# Altium footprint library BioSens.PcbLib: 26 footprints (part 2 of 2)
Each footprint in its own frame and in the unit in brackets; x right, y up, seen from the top. Pads: shape width x height; smd on the part's side, far side on the other; paste and mask are expansions set on the pad; w line width, h text height; cw(c..) or ccw(c..) is an arc to the next point about the centre after c.
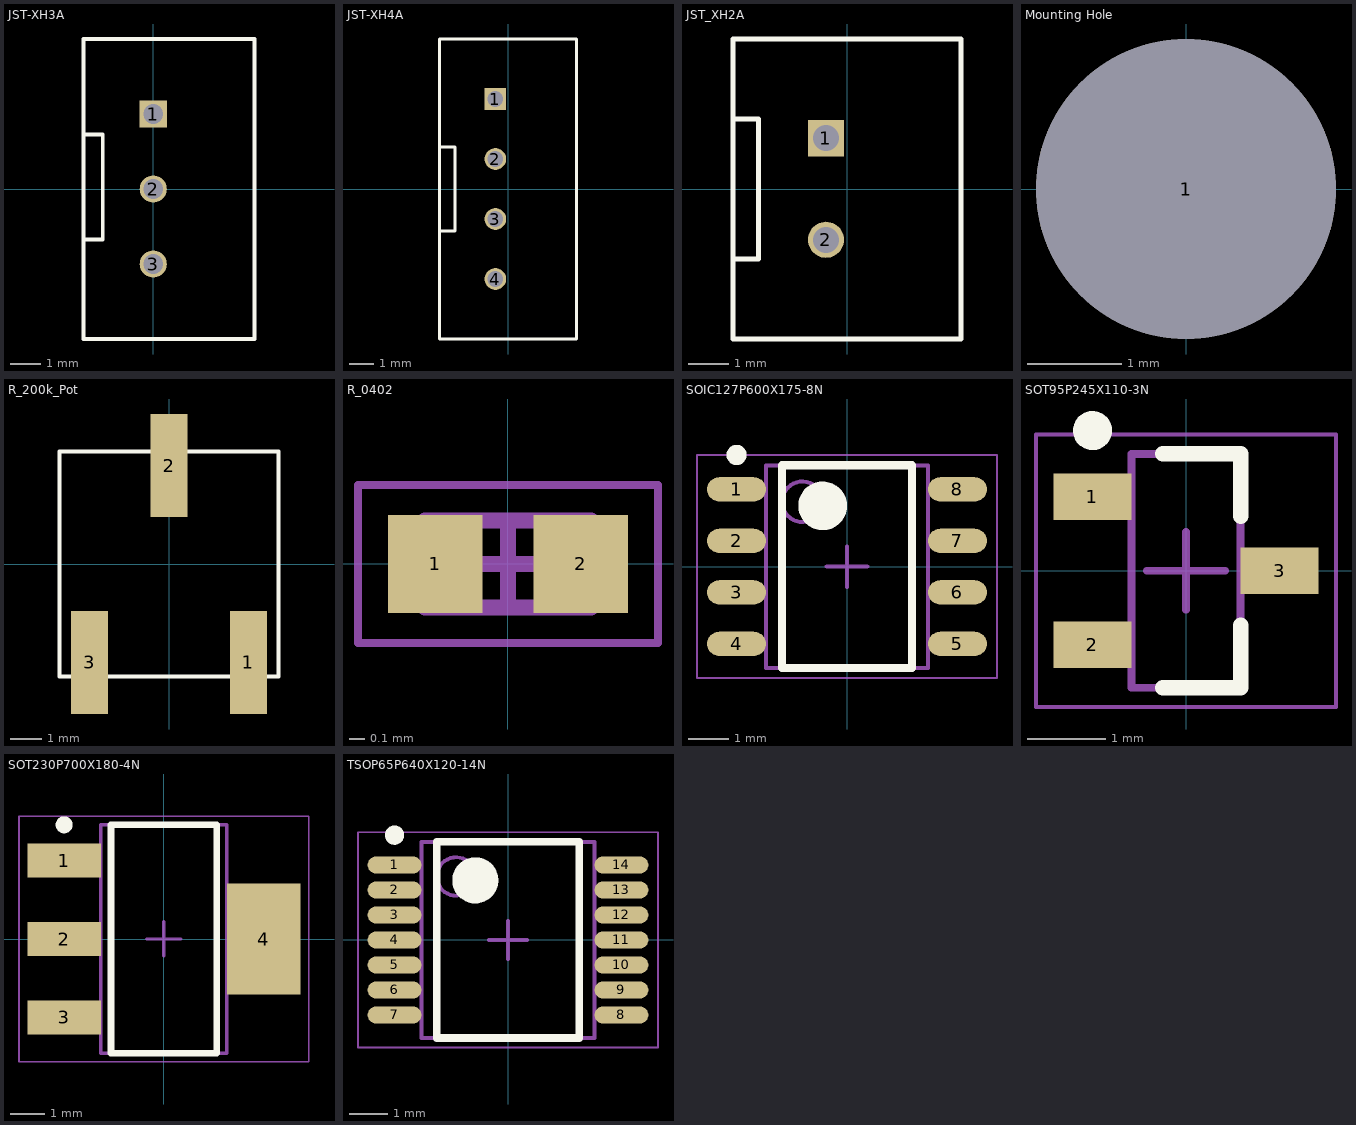
[diagram p1: the footprints below, top view; thin cyan lines are the x and y axes]

## JST-XH3A [mm]
pads (3):
  rect 0.904x0.904 hole 0.65: 1(0,2.5)
  round 0.904 hole 0.65: 2(0,0) 3(0,-2.5)
Top Overlay:
  lines w0.127: -2.32,-1.68 -1.685,-1.68 -1.685,1.82 -2.32,1.82 ; -2.325,-5 3.375,-5 3.375,5 -2.325,5 -2.325,-5

## JST-XH4A [mm]
pads (4):
  rect 0.904x0.904 hole 0.65: 1(-0.525,3.75)
  round 0.904 hole 0.65: 2(-0.525,1.25) 3(-0.525,-1.25) 4(-0.525,-3.75)
Top Overlay:
  lines w0.127: -2.85,-1.75 -2.215,-1.75 -2.215,1.75 -2.85,1.75 ; -2.85,-6.25 -2.85,6.25 2.85,6.25 2.85,-6.25 -2.85,-6.25

## JST_XH2A [mm]
pads (2):
  rect 0.904x0.904 hole 0.65: 1(-0.525,1.27)
  round 0.904 hole 0.65: 2(-0.525,-1.27)
Top Overlay:
  lines w0.127: -2.845,-1.75 -2.21,-1.75 -2.21,1.75 -2.845,1.75 ; -2.85,-3.75 2.85,-3.75 2.85,3.75 -2.85,3.75 -2.85,-3.75

## Mounting Hole [mm]
pads (1):
  round 3.2 hole 3.2: 1(0,0)

## R_200k_Pot [mm]
pads (3):
  rect 1.19x3.3 smd: 1(2.54,-3.15) 2(0,3.15) 3(-2.54,-3.15)
Top Overlay:
  lines w0.127: -3.5,-3.6 3.5,-3.6 3.5,3.6 -3.5,3.6 -3.5,-3.6
Mechanical 15:
  text "'.Designator'" at -5.8,-1.4 h1.2

## R_0402 [mm]
height 0.37
pads (2):
  rect 0.6x0.62 smd: 1(-0.46,0) 2(0.46,0)
Mechanical 15:
  lines w0.05: -0.95,-0.5 0.95,-0.5 0.95,0.5 -0.95,0.5 -0.95,-0.5
  lines w0.1: -0.275,0 0.275,0 ; 0,-0.275 0,0.275 ; -0.525,-0.275 0.525,-0.275 0.525,0.275 -0.525,0.275 -0.525,-0.275
3D body: height 0.37, standoff 0, extent 0.325,-0.275 0.525,0.275
3D body: height 0.37, standoff 0, extent -0.525,-0.275 -0.325,0.275
3D body: height 0.37, standoff 0, extent -0.325,-0.275 0.325,0.275

## SOIC127P600X175-8N [mm] "SOIC, 8-Leads, Body 4.91x3.90mm, Pitch 1.27mm, IPC Medium Density"
height 1.75
pads (8):
  oval 1.45x0.6 smd: 1(-2.725,1.905) 2(-2.725,0.635) 3(-2.725,-0.635) 4(-2.725,-1.905) 5(2.725,-1.905) 6(2.725,-0.635) 7(2.725,0.635) 8(2.725,1.905)
Top Overlay:
  circle w0.25: c-2.725,2.755 r0.125
  circle w0.6: c-0.6,1.5 r0.3
  lines w0.2: -1.6,-2.5 -1.6,2.5 1.6,2.5 1.6,-2.5 -1.6,-2.5
Top Courtyard:
  lines w0.05: -3.7,-2.75 -3.7,2.75 3.7,2.75 3.7,-2.75 -3.7,-2.75
  lines w0.1: -0.5,0 0.5,0 ; 0,-0.5 0,0.5
Top Assembly:
  circle w0.1: c-1.1,1.6 r0.5
  lines w0.1: -2,-2.5 -2,2.5 2,2.5 2,-2.5 -2,-2.5
3D body: height 1.75, standoff 0.11, extent -2,-2.5 2,2.5

## SOT95P245X110-3N [mm] "SOT23, 3-Leads, Body 2.90x2.45mm, Pitch 0.95mm, IPC Medium Density"
height 1.1
pads (3):
  rect 1x0.6 smd: 1(-1.2,0.95) 2(-1.2,-0.95) 3(1.2,0)
Top Overlay:
  circle w0.25: c-1.2,1.8 r0.125
  lines w0.2: -0.3,-1.5 0.7,-1.5 0.7,-0.7 ; -0.3,1.5 0.7,1.5 0.7,0.7
Top Courtyard:
  lines w0.05: -1.925,-1.75 1.925,-1.75 1.925,1.75 -1.925,1.75 -1.925,-1.75
  lines w0.1: -0.5,0 0.5,0 ; 0,-0.5 0,0.5
Top Assembly:
  lines w0.1: -0.7,-1.5 0.7,-1.5 0.7,1.5 -0.7,1.5 -0.7,-1.5
3D body: height 1.1, standoff 0.01, extent -0.7,-1.5 0.7,1.5

## SOT230P700X180-4N [mm] "SOT223, 4-Leads, Body 6.50x7.00mm (avg), Pitch 2.30mm, IPC Medium Density"
height 1.8
pads (4):
  rect 2.15x1 smd: 1(-2.925,2.3) 2(-2.925,0) 3(-2.925,-2.3)
  rect 2.15x3.25 smd: 4(2.925,0)
Top Overlay:
  circle w0.25: c-2.925,3.35 r0.125
  lines w0.2: -1.55,-3.35 -1.55,3.35 1.55,3.35 1.55,-3.35 -1.55,-3.35
Top Courtyard:
  lines w0.05: -4.25,-3.6 -4.25,3.6 4.25,3.6 4.25,-3.6 -4.25,-3.6
  lines w0.1: -0.5,0 0.5,0 ; 0,-0.5 0,0.5
Top Assembly:
  lines w0.1: -1.85,-3.35 -1.85,3.35 1.85,3.35 1.85,-3.35 -1.85,-3.35
3D body: height 1.8, standoff 0.02, extent -1.85,-3.35 1.85,3.35

## TSOP65P640X120-14N [mm] "TSOP, 14-Leads, Body 5.00x4.40mm, Pitch 0.65mm, IPC Medium Density"
height 1.2
pads (14):
  oval 1.4x0.45 smd: 1(-2.95,1.95) 2(-2.95,1.3) 3(-2.95,0.65) 4(-2.95,0) 5(-2.95,-0.65) 6(-2.95,-1.3) 7(-2.95,-1.95) 8(2.95,-1.95) 9(2.95,-1.3) 10(2.95,-0.65) 11(2.95,0) 12(2.95,0.65) 13(2.95,1.3) 14(2.95,1.95)
Top Overlay:
  circle w0.25: c-2.95,2.725 r0.125
  circle w0.6: c-0.85,1.55 r0.3
  lines w0.2: -1.85,-2.55 -1.85,2.55 1.85,2.55 1.85,-2.55 -1.85,-2.55
Top Courtyard:
  lines w0.05: -3.9,-2.8 -3.9,2.8 3.9,2.8 3.9,-2.8 -3.9,-2.8
  lines w0.1: -0.5,0 0.5,0 ; 0,-0.5 0,0.5
Top Assembly:
  circle w0.1: c-1.35,1.65 r0.5
  lines w0.1: -2.25,-2.55 -2.25,2.55 2.25,2.55 2.25,-2.55 -2.25,-2.55
3D body: height 1.2, standoff 0.05, extent -2.25,-2.55 2.25,2.55